# Altium schematic symbol library WSC25155R000FEA.SchLib: 1 symbol
Pins are listed as number, name and electrical type; pins without a type are passive.

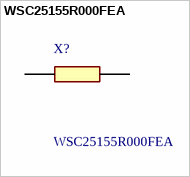
[diagram p0: symbol WSC25155R000FEA]

## WSC25155R000FEA
designator X?
Vishay WSC Series Wirewound Surface Mount Resistor 2515 Case 5 +/-1% 1W +/-50ppm/C; Geometry.Height: 3.171mm; Manufacturer_Name: Vishay; Manufacturer_Part_Number: WSC25155R000FEA; Mouser Part Number: 71-WSC25155R000FEA; Mouser Price/Stock: https://www.mouser.co.uk/ProductDetail/Vishay-Dale/WSC25155R000FEA/?qs=UD2USODSvmLOoM4JvR%252B%2FyQ%3D%3D; Arrow Part Number: WSC25155R000FEA; Arrow Price/Stock: https://www.arrow.com/en/products/wsc25155r000fea/vishay.html?utm_currency=USD&region=nac; Datasheet Link: http://www.vishay.com/docs/30102/wscwsn.pdf
footprint RESM6438X317N
pins: 1, 2